# EAGLE library part XR-2211 (library exar)
FSK demodulator TONE DECODER
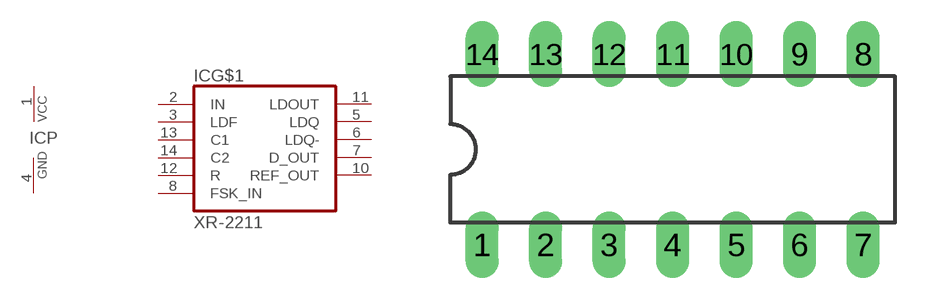
[diagram p6: symbol with the pads of DIL14; footprint DIL14]

Designator prefix IC; gates G$1=XR-2211 P=PWRN

## XR-2211 (OC_FARNELL: unknown; OC_NEWARK: unknown)  [DIL14]
1  P:VCC  pwr
2  G$1:IN  in
3  G$1:LDF  in
4  P:GND  pwr
5  G$1:LDQ  out
6  G$1:LDQ-  out
7  G$1:D_OUT  out
8  G$1:FSK_IN  in
10  G$1:REF_OUT  out
11  G$1:LDOUT  out
12  G$1:R  in
13  G$1:C1  in
14  G$1:C2  in

## Footprint DIL14 (pad centres in mm)
Dual In Line Package
drill 0.813 long: 1 -7.62,-3.81; 2 -5.08,-3.81; 3 -2.54,-3.81; 4 0,-3.81; 5 2.54,-3.81; 6 5.08,-3.81; 7 7.62,-3.81; 8 7.62,3.81; 9 5.08,3.81; 10 2.54,3.81; 11 0,3.81; 12 -2.54,3.81; 13 -5.08,3.81; 14 -7.62,3.81